# Altium footprint library others.PcbLib: 13 footprints
Each footprint in its own frame and in the unit in brackets; x right, y up, seen from the top. Pads: shape width x height; smd on the part's side, far side on the other; paste and mask are expansions set on the pad; w line width, h text height; cw(c..) or ccw(c..) is an arc to the next point about the centre after c.
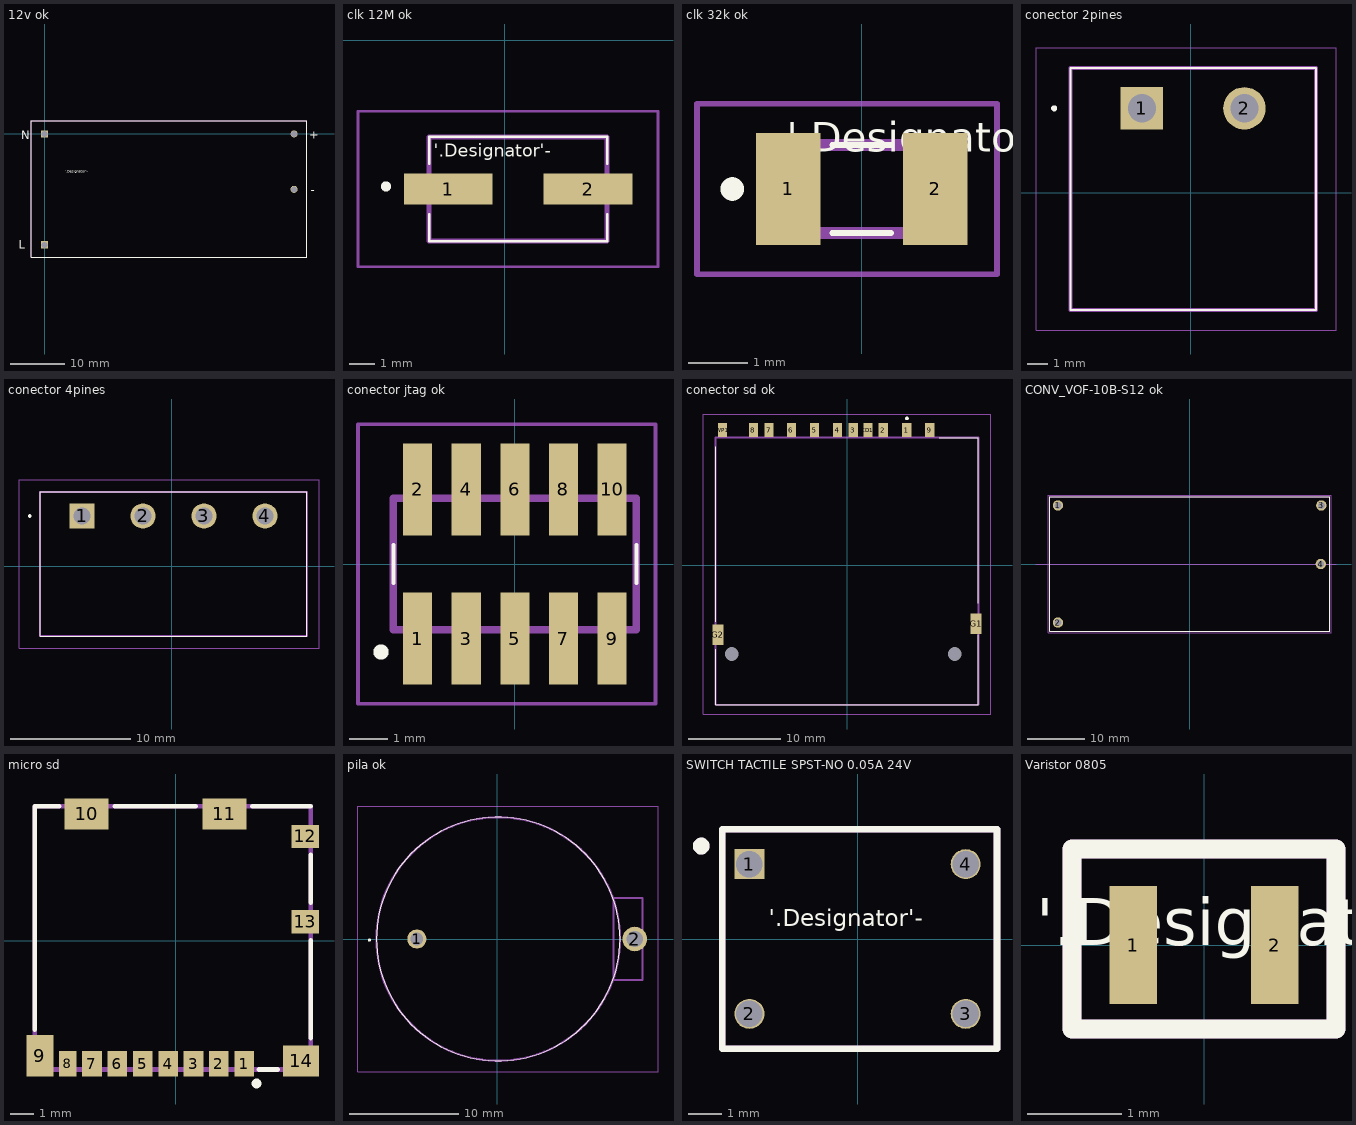
[diagram p0: the footprints below, top view; thin cyan lines are the x and y axes]

## 12v ok [mm]
pads (4):
  rect 1.3x1.3 hole 1.1: 1(0,0) 2(0,-20.32)
  round 1.3 hole 1.1: 3(45.72,0) 4(45.72,-10.16)
Top Overlay:
  lines w0.2: -2.413,-22.606 -2.413,2.413 48.006,2.413 48.006,-22.606 -2.413,-22.606
  text "-" at 48.768,-10.922 h1.52
  text "+" at 48.514,-0.889 h1.52
  text "L" at -4.699,-21.082 h1.52
  text "N" at -4.318,-1.016 h1.52
  text "'.Designator'-" at 3.81,-7.112 h0.5
Mechanical 29 (Mech29):
  lines w0.2: -2.413,-22.606 48.006,-22.606 48.006,2.413 -2.413,2.413 -2.413,-22.606
  text "'.Designator'-" at 3.81,-7.112 h0.5
  text "N" at -4.318,-1.016 h1.52
  text "L" at -4.699,-21.082 h1.52
  text "+" at 48.514,-0.889 h1.52
  text "-" at 48.768,-10.922 h1.52
3D body "source 12V.step": height 19.21, standoff -3.79, extent -1.475,-21.81 47.125,1.49

## clk 12M ok [mm]
pads (2):
  rect 3.5x1.2 smd: 1(-2.231,-5.842) 2(3.269,-5.842)
Top Overlay:
  lines w0.1: -2.981,-6.842 -2.981,-7.842 -2.981,-7.892 4.019,-7.892 4.019,-6.842 ; -2.981,-4.842 -2.981,-3.792 4.019,-3.792 4.019,-4.842
  lines w0.2: -4.681,-5.842 ccw(c-4.681,-5.742) -4.681,-5.642 ccw(c-4.681,-5.742) -4.681,-5.842
  text "'.Designator'-" at -2.794,-4.572 h0.5
Mechanical 13:
  lines w0.2: -2.981,-7.892 -2.981,-3.792 4.019,-3.792 4.019,-7.892 -2.981,-7.892
Mechanical 15:
  lines w0.1: -5.781,-8.892 -5.781,-2.792 6.019,-2.792 6.019,-8.892 -5.781,-8.892
3D body "crystal 12M.STEP": height 2.31, standoff 0.01, extent -3.292,-7.783 4.308,-3.683

## clk 32k ok [mm]
pads (2):
  rect 1.1x1.9 smd: 1(-1.25,3.302) 2(1.25,3.302)
Top Overlay:
  lines w0.1: -0.5,2.552 0.5,2.552 ; -0.5,4.052 0.5,4.052
  lines w0.2: -2.2,3.202 ccw(c-2.2,3.302) -2.2,3.402 ccw(c-2.2,3.302) -2.2,3.202
  text "'.Designator'-" at -1.27,3.937 h0.5
Mechanical 13:
  lines w0.2: -1.6,2.552 1.6,2.552 1.6,4.052 -1.6,4.052 -1.6,2.552
Mechanical 15:
  lines w0.1: -2.8,1.852 2.3,1.852 2.3,4.752 -2.8,4.752 -2.8,1.852
3D body "crystal 32k.step": height 0.92, standoff 0.01, extent -1.6,2.552 1.6,4.052

## conector 2pines [mm]
pads (2):
  rect 2.1x2.1 hole 1.4: 1(-2.413,4.191)
  round 2.1 hole 1.4: 2(2.667,4.191)
Top Overlay:
  circle w0.2: c-6.763,4.191 r0.05
  lines w0.1: -5.953,-5.809 6.207,-5.809 6.207,6.191 -5.953,6.191 -5.953,-5.809
Mechanical 13:
  lines w0.2: -5.953,-5.809 6.207,-5.809 6.207,6.191 -5.953,6.191 -5.953,-5.809
Mechanical 15:
  lines w0.05: -7.663,-6.809 7.207,-6.809 7.207,7.191 -7.663,7.191 -7.663,-6.809
3D body "1757242.stp": height 8.89, standoff -3.54, extent -5.993,-5.809 6.167,6.191

## conector 4pines [mm]
pads (4):
  rect 2.1x2.1 hole 1.4: 1(-7.493,4.191)
  round 2.1 hole 1.4: 2(-2.413,4.191) 3(2.667,4.191) 4(7.747,4.191)
Top Overlay:
  circle w0.2: c-11.843,4.191 r0.05
  lines w0.1: -10.993,-5.809 -10.993,6.191 11.247,6.191 11.247,-5.809 -10.993,-5.809
Mechanical 13:
  lines w0.2: -10.993,-5.809 -10.993,6.191 11.247,6.191 11.247,-5.809 -10.993,-5.809
Mechanical 15:
  lines w0.05: -12.743,-6.809 -12.743,7.191 12.247,7.191 12.247,-6.809 -12.743,-6.809
3D body "1757268.stp": height 8.66, standoff -3.77, extent -10.823,-5.809 11.177,6.191

## conector jtag ok [mm]
pads (10):
  rect 0.76x2.4 smd: 1(-2.54,-1.95) 2(-2.54,1.95) 3(-1.27,-1.95) 4(-1.27,1.95) 5(0,-1.95) 6(0,1.95) 7(1.27,-1.95) 8(1.27,1.95) 9(2.54,-1.95) 10(2.54,1.95)
Top Overlay:
  lines w0.1: -3.175,-0.5 -3.175,0.5 ; 3.175,-0.5 3.175,0.5
  lines w0.2: -3.5,-2.4 cw(c-3.5,-2.3) -3.5,-2.2 cw(c-3.5,-2.3) -3.5,-2.4
Mechanical 13:
  lines w0.2: -3.175,-1.715 -3.175,1.715 3.175,1.715 3.175,-1.715 -3.175,-1.715
Mechanical 15:
  lines w0.1: -4.1,-3.65 -4.1,3.65 3.675,3.65 3.675,-3.65 -4.1,-3.65
3D body "20021121-00010C4LF.stp": height 4.55, standoff 0, extent -3.205,-2.75 3.145,2.75

## conector sd ok [mm]
pads (15):
  rect 1x1.5 smd: 1(6.475,14.652) 2(3.925,14.652) 3(0.675,14.652) 4(-1.025,14.652) 5(-3.525,14.652) 6(-6.025,14.652) 7(-8.45,14.652) 8(-10.15,14.652) 9(8.975,14.652) CD1(2.275,14.652) WP1(-13.5,14.652)
  rect 1.2x2.2 smd: G1(14,-6.348) G2(-14,-7.548)
  round 0.75 hole 1.5 unplated: MH1(-12.5,-9.648) MH2(11.7,-9.648)
Top Overlay:
  lines w0.1: -14.25,-9.148 -14.25,-15.148 14.25,-15.148 14.25,-7.548 ; -14.25,-6.148 -14.25,12.852 ; 10,13.852 14.25,13.852 14.25,-4.148
  lines w0.2: 6.4,15.927 cw(c6.5,15.927) 6.6,15.927 cw(c6.5,15.927) 6.4,15.927
Mechanical 13:
  lines w0.2: -14.25,-15.148 -14.25,13.852 14.25,13.852 14.25,-15.148 -14.25,-15.148
Mechanical 15:
  lines w0.1: -15.6,-16.148 -15.6,16.402 15.6,16.402 15.6,-16.148 -15.6,-16.148
3D body "10067847-001RLF.stp": height 2.9, standoff -0.7, extent -14.225,-15.003 14.225,15.247

## CONV_VOF-10B-S12 ok [mm]
pads (4):
  round 1.8 hole 1.2: 1(-22.86,10.16) 2(-22.86,-10.16) 3(22.86,10.16) 4(22.76,0)
Top Overlay:
  lines w0.127: -24.3,-11.65 24.3,-11.65 24.3,11.65 -24.3,11.65 -24.3,-11.65
Mechanical 13:
  lines w0.1: -26.67,0 25.4,0
  lines w0.127: -24.3,-11.65 -24.3,11.65 24.3,11.65 24.3,-11.65 -24.3,-11.65
Mechanical 15:
  lines w0.05: -24.55,-11.9 -24.55,11.9 24.55,11.9 24.55,-11.9 -24.55,-11.9
3D body "CUI_VOF-10B-S12.step": height 19.21, standoff -3.79, extent -24.384,-11.811 24.216,11.489

## micro sd [mm]
pads (14):
  rect 0.85x1.1 smd: 1(2.978,-5.338) 2(1.878,-5.338) 3(0.778,-5.338) 4(-0.322,-5.338) 5(-1.422,-5.338) 6(-2.522,-5.338) 7(-3.622,-5.338)
  rect 0.75x1.1 smd: 8(-4.672,-5.338)
  rect 1.17x1.8 smd: 9(-5.882,-4.988)
  rect 1.9x1.35 smd: 10(-3.857,5.487) 11(2.113,5.487)
  rect 1.2x1 smd: 12(5.613,4.512) 13(5.613,0.812)
  rect 1.55x1.35 smd: 14(5.438,-5.213)
Top Overlay:
  circle w0.2: c3.507,-6.193 r0.113
  lines w0.2: -6.102,-3.867 -6.102,5.812 -5.041,5.812 ; -2.627,5.812 0.873,5.812 ; 3.328,5.812 5.848,5.812 ; 3.612,-5.588 4.433,-5.588 ; 5.848,-4.221 5.848,0.013 ; 5.848,1.628 5.848,3.709
Mechanical 13:
  lines w0.2: -6.102,-5.588 5.848,-5.588 5.848,5.812 -6.102,5.812 -6.102,-5.588
3D body "104031-0811.stp": height 1.44, standoff -0.01, extent -6.002,-5.471 5.948,5.929

## PCBComponent_1 - duplicate [mm]

## pila ok [mm]
pads (2):
  round 1.755 hole 1.17: 1(-7.366,0)
  round 2.25 hole 1.5: 2(12.634,0)
Top Overlay:
  lines w0.1: -11.076,0 ccw(c0.099,0) 11.274,0 ccw(c0.099,0) -11.076,0
  lines w0.2: -11.766,-0.1 ccw(c-11.716,-0.1) -11.666,-0.1 ; -11.766,-0.1 cw(c-11.716,-0.1) -11.666,-0.1 ; -11.766,-0.1 ccw(c-11.716,-0.1) -11.666,-0.1
Mechanical 13:
  lines w0.2: -11.076,0 cw(c0.099,0) 11.274,0 cw(c0.099,0) -11.076,0 ; 10.674,-3.75 13.324,-3.75 13.324,3.75 10.674,3.75 10.674,-3.75
Mechanical 15:
  lines w0.1: -12.766,-12.175 14.759,-12.175 14.759,12.175 -12.766,12.175 -12.766,-12.175
3D body "BS-7.stp": height 9.1, standoff -5, extent -11.076,-11.175 13.324,11.175

## SWITCH TACTILE SPST-NO 0.05A 24V [mm]
pads (4):
  rect 0.9x0.9 hole 0.8: 1(-3.25,2.25)
  round 0.9 hole 0.8: 2(-3.25,-2.25) 3(3.25,-2.25) 4(3.25,2.25)
Top Overlay:
  circle w0.254: c-4.699,2.794 r0.127
  lines w0.2: -4.064,-3.302 4.191,-3.302 4.191,3.302 -4.064,3.302 -4.064,-3.302
  text "'.Designator'-" at -2.667,0.381 h0.5
Mechanical 29 (Mech29):
  circle w0.254: c-4.699,2.794 r0.127
  lines w0.2: -4.064,-3.302 -4.064,3.302 4.191,3.302 4.191,-3.302 -4.064,-3.302
3D body "SWITCH TACTILE SPST-NO 0.05A 24V.stp": height 5.01, standoff -3.49, extent -3.85,-3 3.85,3

## Varistor 0805 [mm]
pads (2):
  rect 0.5x1.25 smd: 1(-0.75,0) 2(0.75,0)
Top Overlay:
  lines w0.2: -1.397,-0.889 -1.397,1.016 1.397,1.016 1.397,-0.889 -1.397,-0.889
  text "'.Designator'-" at -1.778,0 h0.5
Mechanical 29 (Mech29):
  lines w0.2: -1.397,-0.889 1.397,-0.889 1.397,1.016 -1.397,1.016 -1.397,-0.889
3D body "Varistor 0805.stp": height 1.19, standoff -0.01, extent -1,-0.625 1,0.625